# Altium footprint library 640456-4.PcbLib: 1 footprints
Each footprint in its own frame and in the unit in brackets; x right, y up, seen from the top. Pads: shape width x height; smd on the part's side, far side on the other; paste and mask are expansions set on the pad; w line width, h text height; cw(c..) or ccw(c..) is an arc to the next point about the centre after c.
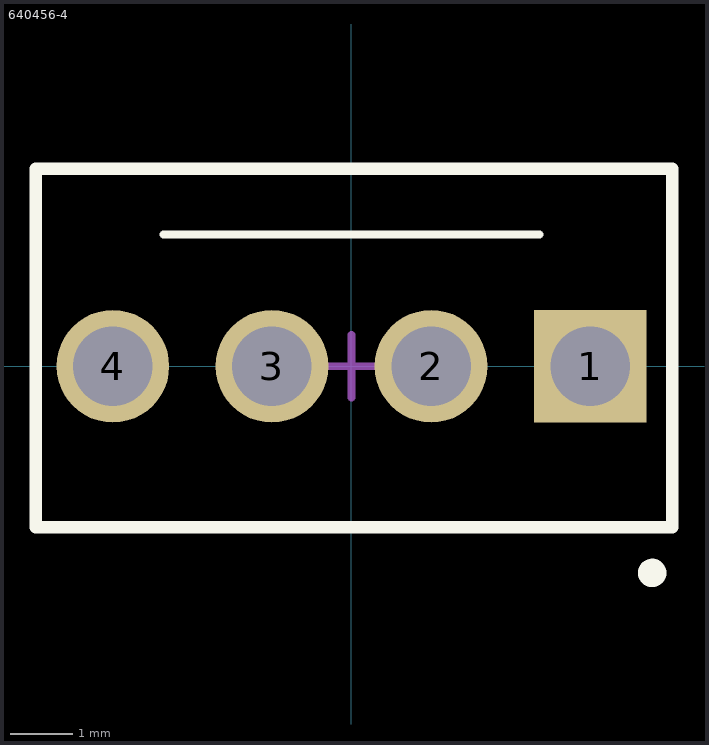
[diagram p0: the footprint, top view; thin cyan lines are the x and y axes]

## 640456-4 [mm]
height 7.5
pads (4):
  rect 1.8x1.8 hole 1.27 paste+0: 1(3.81,0)
  round 1.8 hole 1.27 paste+0: 2(1.27,0) 3(-1.27,0) 4(-3.81,0)
Top Overlay:
  circle w0.254: c4.8,-3.3 r0.1
  lines w0.127: -3,2.1 3,2.1
  lines w0.2: -5.04,-2.568 -5.04,3.152 5.12,3.152 5.12,-2.568 -5.04,-2.568
Mechanical 13:
  lines w0.1: -5.04,-2.568 5.12,-2.568 5.12,3.152 -5.04,3.152 -5.04,-2.568
Mechanical 15:
  lines w0.127: -0.5,0 0.5,0 0,0 ; 0,0 0,0.5 0,-0.5 0,0
3D body "c-640456-4-aa-3d.stp": height 10.09, standoff -3.5, extent -5.04,-2.69 5.12,3.152